# EAGLE library part 74LVC1T45 (library custom)
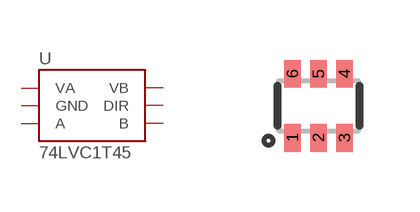
[diagram p96: symbol with the pads of SOT-363; footprint SOT-363]

Designator prefix U

## 74LVC1T45  [SOT-363]
1  VA
2  GND
3  A
4  B
5  DIR
6  VB

## Footprint SOT-363 (pad centres in mm)
smd 0.42 x 0.7: 1 -0.65,-0.8; 2 0,-0.8; 3 0.65,-0.8; 4 0.65,0.8; 5 0,0.8; 6 -0.65,0.8